# Altium schematic symbol library Cameras.SchLib: 5 symbols
Pins are listed as number, name and electrical type; pins without a type are passive.

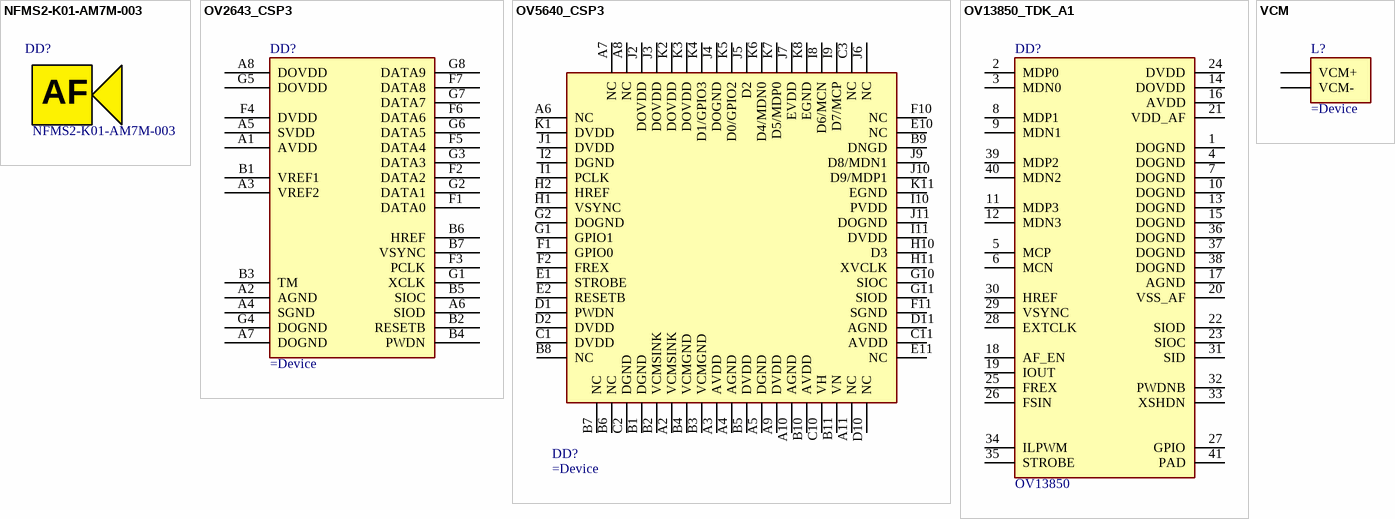
[diagram p0: symbols NFMS2-K01-AM7M-003 to VCM]

## NFMS2-K01-AM7M-003
designator DD?  PartNumber: NFMS2-K01-AM7M-003
AF Camera Module
footprint NFMS2-K01-AM7M-003
text: AF

## OV2643_CSP3
designator DD?
pins: A1 AVDD, A2 AGND, A3 VREF2, A4 SGND, A5 SVDD, A6 SIOD, A7 DOGND, A8 DOVDD, B1 VREF1, B2 RESETB, B3 TM, B4 PWDN, B5 SIOC, B6 HREF, B7 VSYNC, F1 DATA0, F2 DATA2, F3 PCLK, F4 DVDD, F5 DATA4, F6 DATA6, F7 DATA8, G1 XCLK, G2 DATA1, G3 DATA3, G4 DOGND, G5 DOVDD, G6 DATA5, G7 DATA7, G8 DATA9

## OV5640_CSP3
designator DD?
pins: A2 VCMSINK, A3 AVDD, A4 AGND, A5 DGND, A6 NC, A7 NC, A8 NC, A9 DVDD, A10 AGND, A11 NC, B1 DGND, B2 VCMSINK, B3 VCMGND, B4 VCMGND, B5 DVDD, B6 NC, B7 NC, B8 NC, B9 DNGD, B10 AVDD, B11 VN, C1 DVDD, C2 DGND, C3 NC, C10 VH, C11 AVDD, D1 PWDN, D2 DVDD, D10 NC, D11 AGND, E1 STROBE, E2 RESETB, E10 NC, E11 NC, F1 GPIO0, F2 FREX, F10 NC, F11 SGND, G1 GPIO1, G2 DOGND, G10 SIOC, G11 SIOD, H1 VSYNC, H2 HREF, H10 D3, H11 XVCLK, I1 PCLK, I2 DGND, I8 D6/MCN, I9 D7/MCP, I10 PVDD, I11 DVDD, J1 DVDD, J2 DOVDD, J3 DOVDD, J4 DOGND, J5 D2, J6 NC, J7 EVDD, J9 D8/MDN1, J10 D9/MDP1, J11 DOGND, K1 DVDD, K2 DOVDD, K3 DOVDD, K4 D1/GPIO3, K5 D0/GPIO2, K6 D4/MDN0, K7 D5/MDP0, K8 EGND, K11 EGND

## OV13850_TDK_A1
designator DD?, comment OV13850
pins: 1 DOGND, 2 MDP0, 3 MDN0, 4 DOGND, 5 MCP, 6 MCN, 7 DOGND, 8 MDP1, 9 MDN1, 10 DOGND, 11 MDP3, 12 MDN3, 13 DOGND, 14 DOVDD, 15 DOGND, 16 AVDD, 17 AGND, 18 AF_EN, 19 IOUT, 20 VSS_AF, 21 VDD_AF, 22 SIOD, 23 SIOC, 24 DVDD, 25 FREX, 26 FSIN, 27 GPIO, 28 EXTCLK, 29 VSYNC, 30 HREF, 31 SID, 32 PWDNB, 33 XSHDN, 34 ILPWM, 35 STROBE, 36 DOGND, 37 DOGND, 38 DOGND, 39 MDP2, 40 MDN2, 41 PAD

## VCM
designator L?
pins: VCM+, VCM-